# EAGLE library part 9-188275-0 (library Header_R_ESP32)
CONN RCPT 20POS 0.1 TIN SMD Manufacturer's datasheet <https://www.te.com/commerce/DocumentDelivery/DDEController?Action=srchrtrv&DocNm=188275&DocType=Customer+Drawing&DocLang=English>
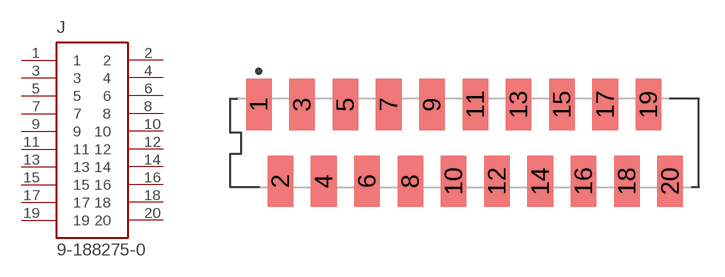
[diagram p26: symbol with the pads of 9-188275-0; footprint 9-188275-0]

Designator prefix J

## 9-188275-0 (CREATED_BY: PCBLayout.com; DIGIKEY_PN: A99481TR-ND; MANUFACTURER: TE Connectivity AMP Connectors; MPN: 9-188275-0)  [9-188275-0]
1  1  pas
2  2  pas
3  3  pas
4  4  pas
5  5  pas
6  6  pas
7  7  pas
8  8  pas
9  9  pas
10  10  pas
11  11  pas
12  12  pas
13  13  pas
14  14  pas
15  15  pas
16  16  pas
17  17  pas
18  18  pas
19  19  pas
20  20  pas

## Footprint 9-188275-0 (pad centres in mm)
smd 1.5 x 3: 1 -12.065,2.25; 2 -10.795,-2.25; 3 -9.525,2.25; 4 -8.255,-2.25; 5 -6.985,2.25; 6 -5.715,-2.25; 7 -4.445,2.25; 8 -3.175,-2.25; 9 -1.905,2.25; 10 -0.635,-2.25; 11 0.635,2.25; 12 1.905,-2.25; 13 3.175,2.25; 14 4.445,-2.25; 15 5.715,2.25; 16 6.985,-2.25; 17 8.255,2.25; 18 9.525,-2.25; 19 10.795,2.25; 20 12.065,-2.25